# Altium schematic symbol library A75AD.SchLib: 1 symbol
Pins are listed as number, name and electrical type; pins without a type are passive.

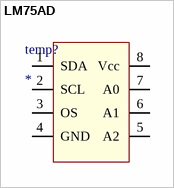
[diagram p0: symbol LM75AD]

## LM75AD
designator temp?
footprint TSSOP8 (TSOP, 8-Leads, Body 3.00x2.95mm, Pitch 0.65mm, IPC Medium Density)
pins: 1 SDA, 2 SCL, 3 OS, 4 GND, 5 A2, 6 A1, 7 A0, 8 Vcc